# Altium schematic symbol library S2751-46R.SchLib: 1 symbol
Pins are listed as number, name and electrical type; pins without a type are passive.

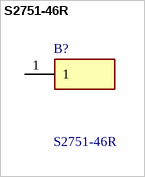
[diagram p0: symbol S2751-46R]

## S2751-46R
designator B?
Hardware: SMT Test Point 1.2x2mm 1.4mm high (T+R); Manufacturer_Name: Harwin; Farnell Part Number: *; Farnell Price/Stock: *; Manufacturer_Part_Number: S2751-46R; Datasheet Link: https://content.harwin.com/m/ae67ab610c42d529/original/DRG-02222-Technical-Drawing-Datasheet-S2751R-pdf.pdf; Geometry.Height: 1.4mm
footprint S275146R
pins: 1